# Altium schematic symbol library AMS1117.SCHLIB: 1 symbol
Pins are listed as number, name and electrical type; pins without a type are passive.

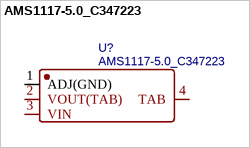
[diagram p0: symbol AMS1117-5.0_C347223]

## AMS1117-5.0_C347223
designator U?
BOM_Manufacturer: Youtai Semiconductor Co., Ltd.; Contributor: LCSC; BOM_Supplier: LCSC; BOM_Supplier Part: C347223; BOM_Manufacturer Part: AMS1117-5.0; BOM_JLCPCB Part Class: Extended Part; spicePre: U; spiceSymbolName: AMS1117-5.0_C347223
footprint SOT-223_L6.7-W3.5-P2.30-BR
pins: 1 ADJ(GND), 2 VOUT(TAB), 3 VIN, 4 TAB